# EAGLE library part CONNECTOR-12_?_* (library HyTechDevices - Copy)
12 pin connector
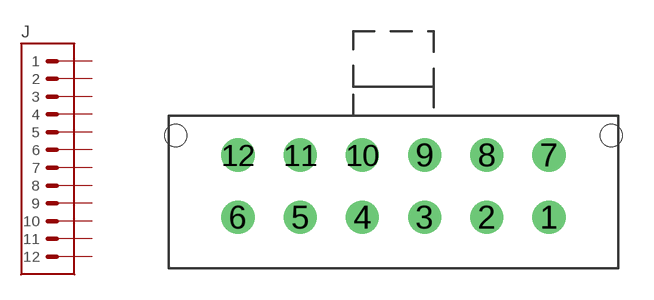
[diagram p32: symbol with the pads of MOLEX_MICROFIT_PTH_VERTICAL_12_DUAL; footprint MOLEX_MICROFIT_PTH_VERTICAL_12_DUAL]

Designator prefix J

## CONNECTOR-12_MF_T_V_ (MANUFACTURER: MOLEX; MPN: 430451214)  [MOLEX_MICROFIT_PTH_VERTICAL_12_DUAL]
1  1  pas
2  2  pas
3  3  pas
4  4  pas
5  5  pas
6  6  pas
7  7  pas
8  8  pas
9  9  pas
10  10  pas
11  11  pas
12  12  pas

## Footprint MOLEX_MICROFIT_PTH_VERTICAL_12_DUAL (pad centres in mm)
12 Pin Micro-Fit Vertical Header, Through-Hole, Dual Row Part <https://www.molex.com/molex/products/part-detail/pcb_headers/0430451214> Footprint <https://www.molex.com/pdm_docs/sd/430451214_sd.pdf> Plug Size <https://www.molex.com/pdm_docs/sd/430251200_sd.pdf>
drill 1.067: 1 7.493,-2.997; 2 4.496,-2.997; 3 1.499,-2.997; 4 -1.499,-2.997; 5 -4.496,-2.997; 6 -7.493,-2.997; 7 7.493,0; 8 4.496,0; 9 1.499,0; 10 -1.499,0; 11 -4.496,0; 12 -7.493,0
hole 1.067 at 10.49,0.94
hole 1.067 at -10.49,0.94